# EAGLE library part 5102154-5 (library Tyco_By_element14_Batch_1)
AMP-LATCH Pin and Pinless Headers
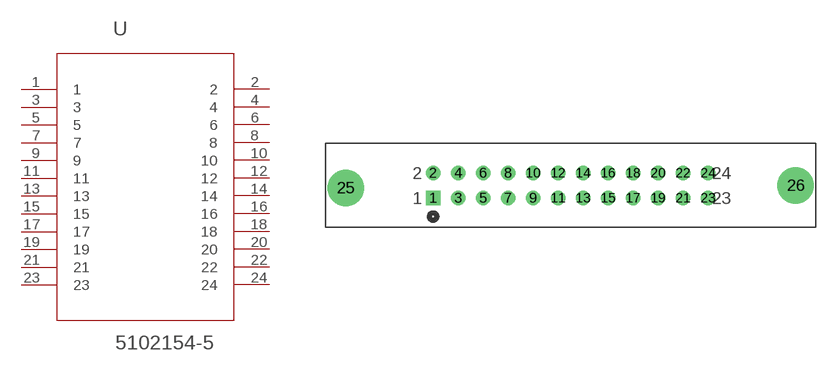
[diagram p64: symbol with the pads of TYCO_5102154-5; footprint TYCO_5102154-5]

Designator prefix U

## 5102154-5 (MPN: 5102154-5; OC_FARNELL: 1767697; OC_NEWARK: 19R0893; PACKAGE: Header-pin; SUPPLIER: Tyco)  [TYCO_5102154-5]
1  1  pas
2  2  pas
3  3  pas
4  4  pas
5  5  pas
6  6  pas
7  7  pas
8  8  pas
9  9  pas
10  10  pas
11  11  pas
12  12  pas
13  13  pas
14  14  pas
15  15  pas
16  16  pas
17  17  pas
18  18  pas
19  19  pas
20  20  pas
21  21  pas
22  22  pas
23  23  pas
24  24  pas

## Footprint TYCO_5102154-5 (pad centres in mm)
drill 0.965 square: 1 -27.94,-2.54
drill 0.965: 2 -27.94,0; 3 -25.4,-2.54; 4 -25.4,0; 5 -22.86,-2.54; 6 -22.86,0; 7 -20.32,-2.54; 8 -20.32,0; 9 -17.78,-2.54; 10 -17.78,0; 11 -15.24,-2.54; 12 -15.24,0; 13 -12.7,-2.54; 14 -12.7,0; 15 -10.16,-2.54; 16 -10.16,0; 17 -7.62,-2.54; 18 -7.62,0; 19 -5.08,-2.54; 20 -5.08,0; 21 -2.54,-2.54; 22 -2.54,0; 23 0,-2.54; 24 0,0
drill 2.692: 25 -36.83,-1.524; 26 8.89,-1.27